# EAGLE library part POTENTIOMETER_5K (library MABOS_components)
SLIDE POT 5K OHM TOP 15MM - Through Hole Slide Potentiometer Top Adjustment Type SLIDE POT 5K OHM TOP 15MM Source: Datasheet
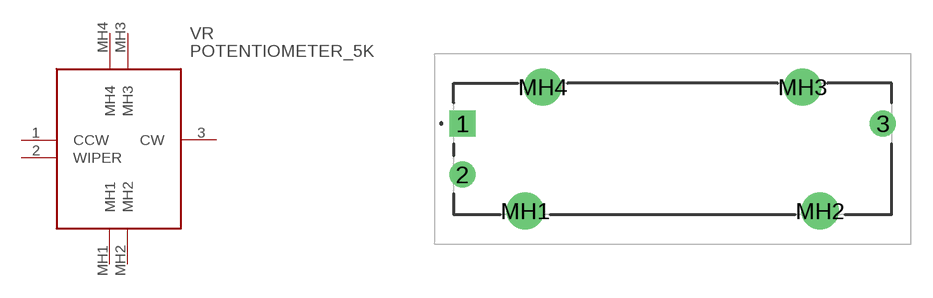
[diagram p2: symbol with the pads of POTENTIOMETER; footprint POTENTIOMETER]

Designator prefix VR

## POTENTIOMETER_5K (DESCRIPTION: SLIDE POT 5K OHM TOP 15MM - Through Hole Slide Potentiometer Top Adjustment Type SLIDE POT 5K OHM TOP 15MM; HEIGHT: 17mm; MANUFACTURER_NAME: TT Electronics; MANUFACTURER_PART_NUMBER: PS15-10PC1BR5K; MOUSER_PART_NUMBER: 858-PS1510PC1BR5K; MOUSER_PRICE-STOCK: https://www.mouser.co.uk/ProductDetail/BI-Technologies-TT-Electronics/PS15-10PC1BR5K/?qs=1MXlzafEN399P50A%252By84yQ%3D%3D)  [POTENTIOMETER]
1  CCW
2  WIPER
3  CW
MH1  MH1
MH2  MH2
MH3  MH3
MH4  MH4

## Footprint POTENTIOMETER (pad centres in mm)
PS15-10PC1BR5K
drill 1.2 pad 1.8 square: 1 0,0
drill 1.2 pad 1.8: 2 0,-3.5; 3 28.8,0
drill 1.7 pad 2.55: MH1 4.3,-6; MH2 24.5,-6; MH3 23.3,2.5; MH4 5.5,2.5